# Altium schematic symbol library SCH - PASSIVES - INDUCTOR WE-CBF.SCHLIB: 1 symbol
Pins are listed as number, name and electrical type; pins without a type are passive.

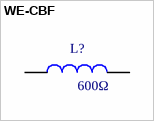
[diagram p0: symbol WE-CBF]

## WE-CBF
designator L?, comment 600Ω
WE-CBF SMD EMI Suppression Ferrite Bead, 0805, 600Ω
pins: 1, 2